# EAGLE library part CMA3000 (library James_custom)
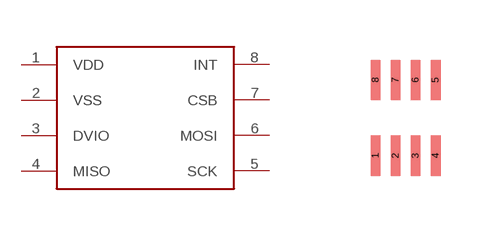
[diagram p4: symbol with the pads of CMA3000; footprint CMA3000]

Designator prefix -

## CMA3000  [CMA3000]
1  VDD
2  VSS
3  DVIO
4  MISO
5  SCK
6  MOSI
7  CSB
8  INT

## Footprint CMA3000 (pad centres in mm)
smd 0.249 x 1.001: 1 0,-0.95; 2 0.5,-0.95; 3 1.001,-0.95; 4 1.501,-0.95; 5 1.501,0.95; 6 1.001,0.95; 7 0.5,0.95; 8 0,0.95